# Altium footprint library ELECTROMECHANICAL_Test.PcbLib: 6 footprints
Each footprint in its own frame and in the unit in brackets; x right, y up, seen from the top. Pads: shape width x height; smd on the part's side, far side on the other; paste and mask are expansions set on the pad; w line width, h text height; cw(c..) or ccw(c..) is an arc to the next point about the centre after c.
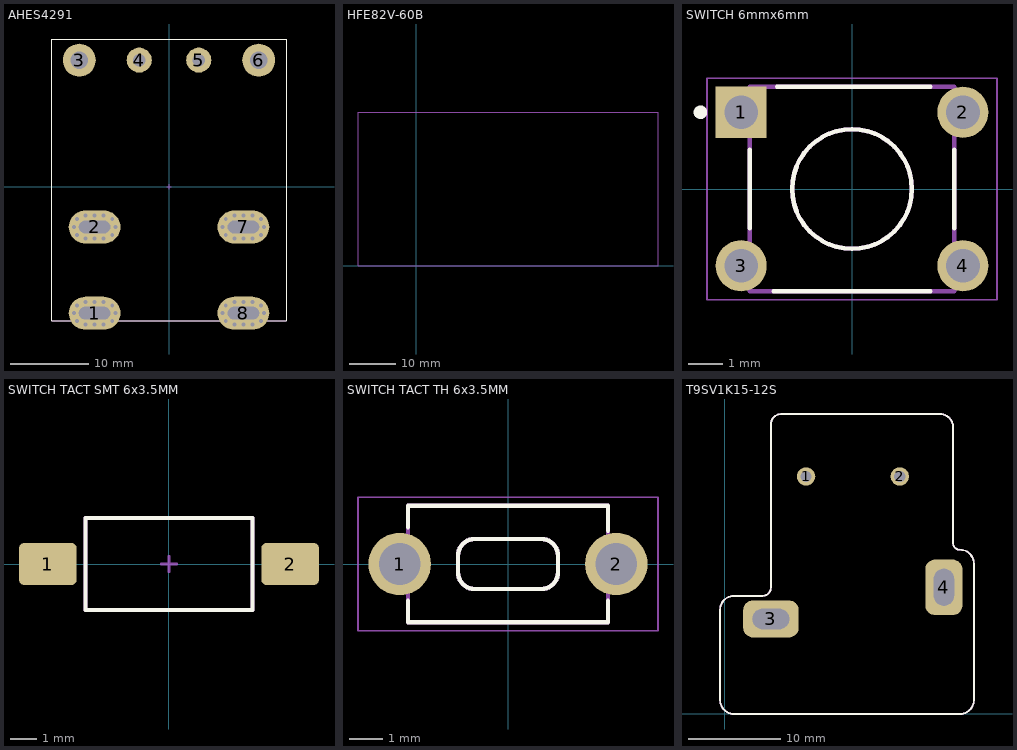
[diagram p0: the footprints below, top view; thin cyan lines are the x and y axes]

## AHES4291 [mm]
pads (8):
  oval 6.6x4.2 hole 1.6 slot 4 at 0 deg mask+0.102: 1(-9.5,-16.15) 7(9.5,-5.15) 8(9.5,-16.15)
  oval 6.6x4.2 hole 1.6 slot 4 at 0 deg: 2(-9.5,-5.15)
  round 4.2 hole 2.2 mask+0.102: 3(-11.45,16.15) 6(11.45,16.15)
  round 3.2 hole 1.6 mask+0.102: 4(-3.8,16.15) 5(3.8,16.15)
via -11.75,-4.15 diameter 1 hole 0.5
via -7.25,-4.15 diameter 1 hole 0.5
via -11.75,-6.15 diameter 1 hole 0.5
via -7.25,-6.15 diameter 1 hole 0.5
via -9.5,-6.6 diameter 1 hole 0.5
via -6.85,-5.15 diameter 1 hole 0.5
via -8.35,-3.7 diameter 1 hole 0.5
via -9.5,-3.7 diameter 1 hole 0.5
via -10.65,-3.7 diameter 1 hole 0.5
via -12.15,-5.15 diameter 1 hole 0.5
via -8.35,-6.6 diameter 1 hole 0.5
via -10.65,-6.6 diameter 1 hole 0.5
via 7.25,-4.15 diameter 1 hole 0.5
via 11.75,-4.15 diameter 1 hole 0.5
via 7.25,-6.15 diameter 1 hole 0.5
via 11.75,-6.15 diameter 1 hole 0.5
via 9.5,-6.6 diameter 1 hole 0.5
via 12.15,-5.15 diameter 1 hole 0.5
via 10.65,-3.7 diameter 1 hole 0.5
via 9.5,-3.7 diameter 1 hole 0.5
via 8.35,-3.7 diameter 1 hole 0.5
via 6.85,-5.15 diameter 1 hole 0.5
via 10.65,-6.6 diameter 1 hole 0.5
via 8.35,-6.6 diameter 1 hole 0.5
via -11.75,-15.15 diameter 1 hole 0.5
via -7.25,-15.15 diameter 1 hole 0.5
via -11.75,-17.15 diameter 1 hole 0.5
via -7.25,-17.15 diameter 1 hole 0.5
via -9.5,-17.6 diameter 1 hole 0.5
via -6.85,-16.15 diameter 1 hole 0.5
via -8.35,-14.7 diameter 1 hole 0.5
via -9.5,-14.7 diameter 1 hole 0.5
via -10.65,-14.7 diameter 1 hole 0.5
via -12.15,-16.15 diameter 1 hole 0.5
via -8.35,-17.6 diameter 1 hole 0.5
via -10.65,-17.6 diameter 1 hole 0.5
via 7.25,-15.15 diameter 1 hole 0.5
via 11.75,-15.15 diameter 1 hole 0.5
via 7.25,-17.15 diameter 1 hole 0.5
via 11.75,-17.15 diameter 1 hole 0.5
via 9.5,-17.6 diameter 1 hole 0.5
via 12.15,-16.15 diameter 1 hole 0.5
via 10.65,-14.7 diameter 1 hole 0.5
via 9.5,-14.7 diameter 1 hole 0.5
via 8.35,-14.7 diameter 1 hole 0.5
via 6.85,-16.15 diameter 1 hole 0.5
via 10.65,-17.6 diameter 1 hole 0.5
via 8.35,-17.6 diameter 1 hole 0.5
Top Overlay:
  lines w0.15: -12.5,-17.15 -15,-17.15 -15,18.85 15,18.85 15,-17.15 12.5,-17.15 ; -6.5,-17.15 6.5,-17.15
Mechanical 15:
  lines w0.1: -0.3,0 0.3,0 ; 0,-0.3 0,0.3
Mechanical 29:
  lines w0.15: -12.5,-17.15 -15,-17.15 -15,18.85 15,18.85 15,-17.15 12.5,-17.15 ; -6.5,-17.15 6.5,-17.15
  text "'.Designator'" at -4.914,-0.46 h2.03
3D body "ahes4191.step": height 40, standoff -4, extent -15,-17.15 15,18.85

## HFE82V-60B [mm]
Mechanical 29:
  lines w0.2: -12.5,0 -12.5,33 51.9,33 51.9,0 -12.5,0
  text "'.Designator'" at 8,15.539 h5
3D body "HFE82V-60B-XX-HL5.stp": height 52.95, standoff -7.95, extent -12.3,0 51.7,33

## SWITCH 6mmx6mm [mm]
pads (4):
  rect 1.498x1.498 hole 0.99: 1(-3.25,2.25)
  round 1.498 hole 0.99: 2(3.25,2.25) 3(-3.25,-2.25) 4(3.25,-2.25)
Top Overlay:
  circle w0.2: c-4.445,2.25 r0.1
  circle w0.127: c0,0 r1.755
  lines w0.127: -2.995,-1.15 -2.995,1.15 ; -2.3,-2.995 2.3,-2.995 ; -2.2,2.995 2.3,2.995 ; 3,-1.15 3,1.15
Mechanical 15:
  lines w0.05: -4.25,-3.25 4.25,-3.25 4.25,3.25 -4.25,3.25 -4.25,-3.25
Mechanical 29:
  circle w0.127: c0,0 r1.755
  lines w0.127: -2.995,-2.995 2.995,-2.995 2.995,2.995 -2.995,2.995 -2.995,-2.995
  text "'.Designator'" at -2.362,-2.676 h0.51
3D body "c-1825910-6-c-3d.stp": height 5.01, standoff -3.5, extent -3.9,-2.995 3.9,2.995

## SWITCH TACT SMT 6x3.5MM [mm]
pads (2):
  rrect25% 2.19x1.6 smd: 1(-4.595,0) 2(4.595,0)
Top Overlay:
  lines w0.15: -3.175,-1.75 -3.175,1.75 3.175,1.75 3.175,-1.75 -3.175,-1.75
Mechanical 15:
  lines w0.1: -0.3,0 0.3,0 ; 0,-0.3 0,0.3
Mechanical 29:
  lines w0.15: -3.175,-1.75 3.175,-1.75 3.175,1.75 -3.175,1.75 -3.175,-1.75
  text "'.Designator'" at -2.457,-0.23 h1.02
3D body "FSMSMTR.STEP": height 4.42, standoff 0, extent -4.985,-1.75 4.984,1.75

## SWITCH TACT TH 6x3.5MM [mm]
pads (2):
  round 1.875 hole 1.25: 1(-3.25,0) 2(3.25,0)
Top Overlay:
  lines w0.127: -3,-1.1 -3,-1.75 3,-1.75 3,-1.1 ; -3,1.1 -3,1.75 3,1.75 3,1 ; -1.5,-0.25 ccw(c-1,-0.25) -1,-0.75 1,-0.75 ccw(c1,-0.25) 1.5,-0.25 1.5,0.25 ccw(c1,0.25) 1,0.75 -1,0.75 ccw(c-1,0.25) -1.5,0.25 -1.5,-0.25
Mechanical 13:
  lines w0.127: -3,-1.75 -3,1.75 3,1.75 3,-1.75 -3,-1.75 ; -1.5,-0.25 ccw(c-1,-0.25) -1,-0.75 1,-0.75 ccw(c1,-0.25) 1.5,-0.25 1.5,0.25 ccw(c1,0.25) 1,0.75 -1,0.75 ccw(c-1,0.25) -1.5,0.25 -1.5,-0.25
Mechanical 15:
  lines w0.05: -4.5,-2 4.5,-2 4.5,2 -4.5,2 -4.5,-2
Mechanical 29:
  lines w0.127: -3,-1.1 -3,-1.75 3,-1.75 3,-1.1 ; -3,1.1 -3,1.75 3,1.75 3,1
  text "'.Designator'" at -2.457,-0.23 h1.02
3D body "DTS-31.STEP": height 4.31, standoff -3.49, extent -3.878,-1.75 3.878,1.75

## T9SV1K15-12S [mm]
pads (4):
  round 2 hole 1.2: 1(8.81,25.74) 2(18.97,25.74)
  rrect50% 6x4 hole 4 slot 2.2 at 90 deg: 3(5,10.3)
  rrect50% 4x6 hole 2.2 slot 4 at 90 deg: 4(23.75,13.73)
Top Overlay:
  lines w0.2: 25.5,-0.003 ccw(c25.5,1.498) 27,1.497 27,16.3 ccw(c25.5,16.3) 25.5,17.8 cw(c25.475,18.525) 24.75,18.5 24.75,31.1 ccw(c23.32,31.08) 23.3,32.509 6.1,32.5 ccw(c6.1,31.4) 5,31.4 5,13.7 cw(c4.1,13.7) 4.1,12.8 1,12.8 ccw(c1,11.3) -0.5,11.3 -0.5,1.497 ccw(c1,1.497) 1,-0.003 25.6,-0.003
Mechanical 29:
  lines w0.2: 25.5,0 ccw(c25.5,1.5) 27,1.5 27,16.303 ccw(c25.5,16.303) 25.5,17.803 cw(c25.475,18.528) 24.75,18.503 24.75,31.103 ccw(c23.32,31.082) 23.3,32.512 6.1,32.503 ccw(c6.1,31.403) 5,31.403 5,13.703 cw(c4.1,13.703) 4.1,12.803 1,12.803 ccw(c1,11.303) -0.5,11.303 -0.5,1.5 ccw(c1,1.5) 1,0 25.6,0
  text "'.Designator'" at 7.342,18.721 h3
3D body "c-2027395-3-d-3d.stp": height 20.54, standoff -3.66, extent -0.473,0.045 26.957,32.555